# Altium footprint library SparkFun-Connectors.PCBLIB: 305 footprints (part 18 of 20)
Each footprint in its own frame and in the unit in brackets; x right, y up, seen from the top. Pads: shape width x height; smd on the part's side, far side on the other; paste and mask are expansions set on the pad; w line width, h text height; cw(c..) or ccw(c..) is an arc to the next point about the centre after c.
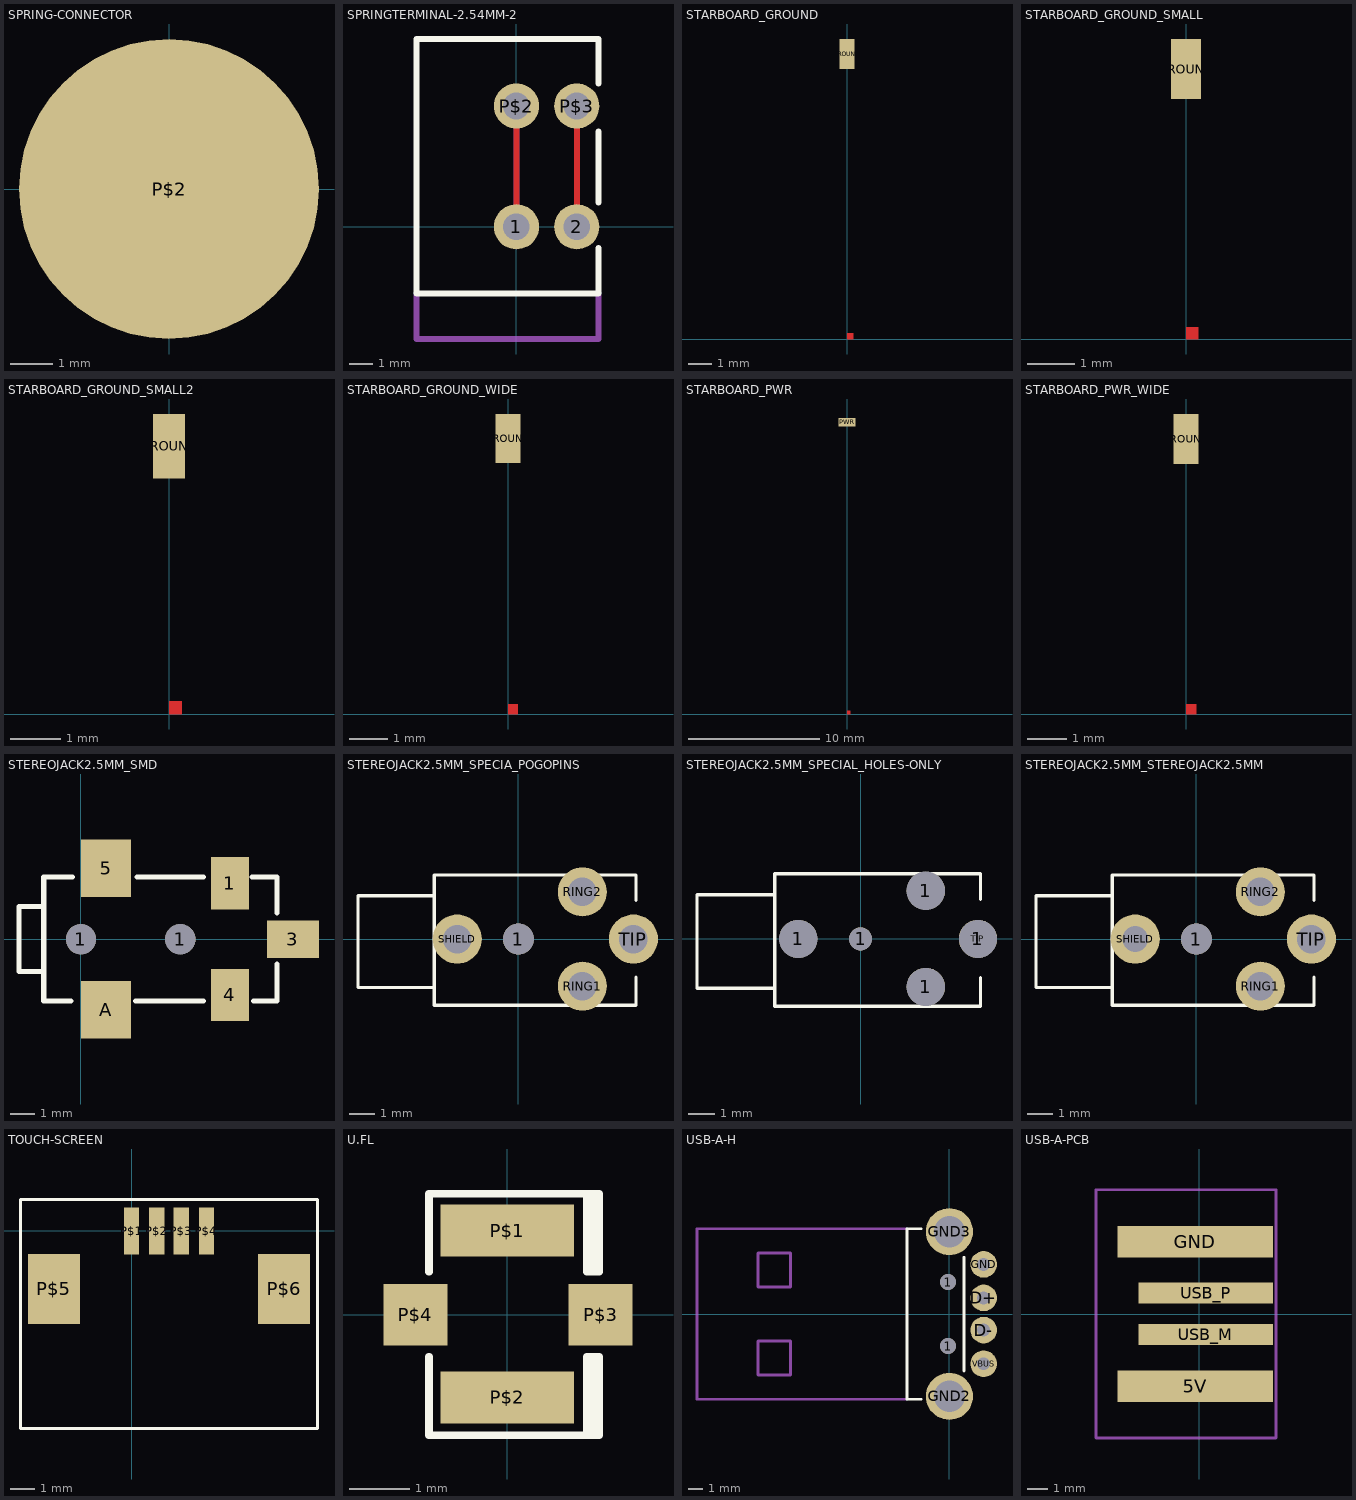
[diagram p17: the footprints below, top view; thin cyan lines are the x and y axes]

## SPRING-CONNECTOR [mil]
pads (1):
  rrect100% 280x280 smd: P$2(0,0)

## SPRINGTERMINAL-2.54MM-2 [mil]
pads (4):
  round 75 hole 44: 1(0,0) 2(100,0) P$2(0,200) P$3(100,200)
Top Layer:
  lines w10: 0,0 0,200 ; 100,0 100,200
Bottom Layer:
  lines w10: 0,0 0,200 ; 100,0 100,200
Top Overlay:
  lines w10: 136,-35.43 136,-110.24 -165.35,-110.24 -165.35,311 136,311 136,237 ; 136,40 136,158
Mechanical 16:
  lines w10: -165.35,-110.24 -165.35,-185.83 136,-185.83 136,-110.24

## STARBOARD_GROUND [mil]
pads (1):
  rect 25x50 smd: GROUND(0,475)
Top Layer:
  region: 0,0 10,0 10,10 0,10
Top Solder:
  region: 0,0 10,0 10,10 0,10

## STARBOARD_GROUND_SMALL [mil]
pads (1):
  rect 25x50 smd: GROUND(0,225)
Top Layer:
  region: 0,0 10,0 10,10 0,10
Top Solder:
  region: 0,0 10,0 10,10 0,10

## STARBOARD_GROUND_SMALL2 [mil]
pads (1):
  rect 25x50 smd: GROUND(0,208)
Top Layer:
  region: 0,0 10,0 10,10 0,10
Top Solder:
  region: 0,0 10,0 10,10 0,10

## STARBOARD_GROUND_WIDE [mil]
pads (1):
  rect 25x50 smd: GROUND(0,280)
Top Layer:
  region: 0,0 10,0 10,10 0,10
Top Solder:
  region: 0,0 10,0 10,10 0,10

## STARBOARD_PWR [mil]
pads (1):
  rect 50x25 smd: PWR(0,875)
Top Layer:
  region: 0,0 10,0 10,10 0,10
Top Solder:
  region: 0,0 10,0 10,10 0,10

## STARBOARD_PWR_WIDE [mil]
pads (1):
  rect 25x50 smd: GROUND(0,275)
Top Layer:
  region: 0,0 10,0 10,10 0,10
Top Solder:
  region: 0,0 10,0 10,10 0,10

## STEREOJACK2.5MM_SMD [mil]
pads (7):
  round 48 hole 48: 1(0,0) 1(158,0)
  rect 60x83 smd: 1(237,89) 4(237,-88.58)
  rect 83x60 smd: 3(337,0)
  rect 79x91 smd: 5(40,113) A(40,-112.2)
Top Overlay:
  lines w8: -15.75,-98.43 -59.06,-98.43 -59.06,-51.18 ; -13.78,99 -59.06,99 -59.06,52 ; 87,-98.43 195,-98.43 ; 89,99 195,99 ; 272,99 312,99 312,42 ; 274,-98.43 312,-98.43 312,-39.37 ; -59.06,-51.18 -59.06,0 -59.06,52 ; -59.06,-51.18 -98.43,-51.18 -98.43,0 -98.43,52 -59.06,52

## STEREOJACK2.5MM_SPECIA_POGOPINS [mil]
pads (5):
  round 48 hole 48: 1(0,0)
  round 76 hole 44: RING1(99,-72.83) RING2(99,73) SHIELD(-94.49,0) TIP(178,0)
Top Overlay:
  lines w5: 182,-59.06 182,-102.36 -129.92,-102.36 -129.92,-74.8 ; 182,60 182,99 -129.92,99 -129.92,67 ; -129.92,-74.8 -129.92,67 ; -129.92,-74.8 -248.03,-74.8 -248.03,67 -129.92,67

## STEREOJACK2.5MM_SPECIAL_HOLES-ONLY [mil]
pads (9):
  round 58 hole 58: 1(-94.49,0) 1(99,-72.83) 1(99,73) 1(178,0)
  round 35 hole 35: 1(0,0)
  round 32 hole 35: RING1(99,-72.83) RING2(99,73) SHIELD(-94.49,0) TIP(178,0)
Top Overlay:
  lines w5: 182,-59.06 182,-102.36 -129.92,-102.36 -129.92,-74.8 ; 182,60 182,99 -129.92,99 -129.92,67 ; -129.92,-74.8 -129.92,67 ; -129.92,-74.8 -248.03,-74.8 -248.03,67 -129.92,67

## STEREOJACK2.5MM_STEREOJACK2.5MM [mil]
pads (5):
  round 48 hole 48: 1(0,0)
  round 76 hole 44: RING1(99,-72.83) RING2(99,73) TIP(178,0)
  round 76 hole 40: SHIELD(-94.49,0)
Top Overlay:
  lines w5: 174,99 166,99 ; 182,-59.06 182,-102.36 -129.92,-102.36 -129.92,-74.8 ; 182,60 182,99 166,99 ; -129.92,-74.8 -129.92,67 ; -129.92,-74.8 -248.03,-74.8 -248.03,67 -129.92,67 ; -129.92,67 -129.92,99 166,99

## TOUCH-SCREEN [mil]
pads (6):
  rect 24x75 smd: P$1(0,0) P$2(40,0) P$3(79,0) P$4(119,0)
  rect 83x111 smd: P$5(-124.02,-92.52) P$6(243,-92.52)
Top Overlay:
  lines w5: -177.17,-314.96 296,-314.96 296,50 -177.17,50 -177.17,-314.96

## U.FL [mil]
pads (4):
  rect 87x34 smd: P$1(0,55) P$2(0,-54.13)
  rect 42x40 smd: P$3(61,0) P$4(-60.04,0)
Top Overlay:
  lines w5: -51.18,-27.56 -51.18,-78.74 52,-78.74 ; -51.18,28 -51.18,79 52,79 ; 56,-78.74 56,-27.56 ; 56,28 56,79 ; 52,-78.74 52,-27.56 60,-27.56 60,-78.74 52,-78.74 ; 52,79 52,28 60,28 60,79 52,79

## USB-A-H [mil]
pads (8):
  round 44 hole 44: 1(-3.94,-88.58) 1(-3.94,89)
  round 74 hole 36: D+(95,45) D-(95,-44.37) GND(95,138) VBUS(95,-137.8)
  round 130.5 hole 87: GND2(0,-228.35) GND3(0,229)
Top Overlay:
  lines w8: -78.74,-236.22 -118.11,-236.22 -118.11,237 -78.74,237 ; 40,-157.48 40,158
Mechanical 16:
  lines w8: -118.11,-236.22 -700.79,-236.22 -700.79,237 -118.11,237 ; -531.5,-169.29 -531.5,-74.8 -440.94,-74.8 -440.94,-169.29 -531.5,-169.29 ; -531.5,75 -531.5,170 -440.94,170 -440.94,75 -531.5,75
  text "PCB Edge" at -153.54,-173.23 h77.5

## USB-A-PCB [mil]
pads (4):
  rect 296x60 smd: 5V(-7.87,-137.8) GND(-7.87,138)
  rect 256x40 smd: USB_M(12,-39.37) USB_P(12,40)
Mechanical 16:
  lines w5: -196.85,-236.22 146,-236.22 146,237 -196.85,237 -196.85,-236.22